# Altium schematic symbol library MCx.SchLib: 66 symbols (part 3 of 3)
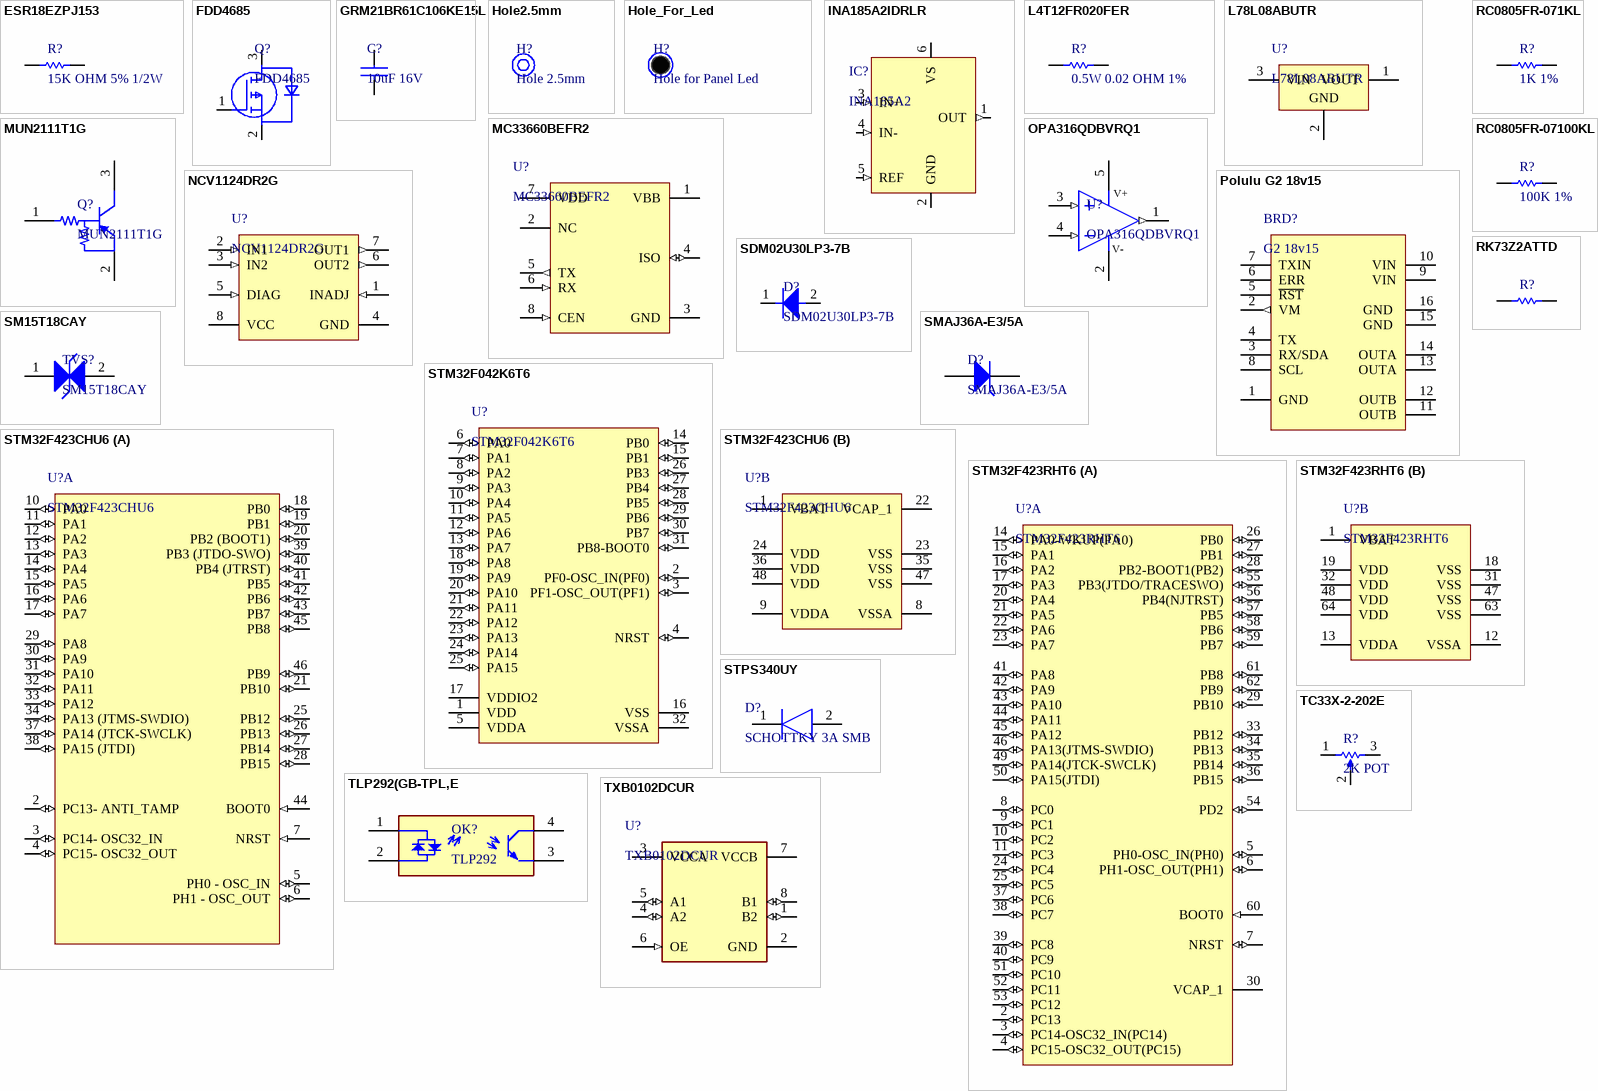
[diagram p3: symbols ESR18EZPJ153 to TXB0102DCUR]

## L78L08ABUTR
designator U?
STMICROELECTRONICS         L78L08ABUTR             Fixed Linear Voltage Regulator, 7808, 3-Terminal, Positive, 14V To 30V In, 8V And 0.1A Out, SOT-89-3; Dropout Voltage: 1.7V; Number of Outputs: 1; Output Current: 100mA; Min Input Voltage: 10V; Min Supply Voltage: 10.5V; Quiescent Current: 6mA; Power Supply Rejection Ratio (PSRR): 45dB; Supplier 1: Mouser; Supplier Part Number 1: 511-L78L08ABU; Manufacturer: STMicroelectronics; Manufacturer Part Number: L78L08ABUTR; RoHS: Yes; Category: Voltage Regulators - Linear; Stock 1: 5535; Pricing 1: 1=0.44000, 10=0.35400, 100=0.21200, 1000=0.15600, 2500=0.13600, 10000=0.12900 (USD); Mount: Surface Mount; Case/Package: SOT-89; Number of Pins: 3; Weight: 0.004603oz; Min Operating Temperature: -40°C; Max Operating Temperature: 125°C; Packaging: Tape and Reel; Output Voltage: 8V; Package Quantity: 1; Max Output Current: 100mA; Max Input Voltage: 30V; Max Supply Voltage: 30V; Nominal Output Voltage: 8V; Number of Regulators: 1; Polarity: Positive; Min Output Voltage: 8V; Max Output Voltage: 8V; Termination: SMD/SMT; Output Type: Fixed; Length: 4.6mm; Height: 1.6mm; Width: 2.6mm; Radiation Hardening: No; REACH SVHC: No SVHC; Lead Free: Lead Free; ComponentLink1URL: https://datasheet.ciiva.com/2042/cd00000446-2042016.pdf?src-supplier=Digi-Key; ComponentLink1Description: https://datasheet.ciiva.com/2042/cd00000446-2042016.pdf?src-supplier=Digi-Key; ComponentLink2URL: https://datasheet.ciiva.com/2042/cd00000446-2042017.pdf?src-supplier=Digi-Key; ComponentLink2Description: https://datasheet.ciiva.com/2042/cd00000446-2042017.pdf?src-supplier=Digi-Key; ComponentLink3URL: https://datasheet.ciiva.com/3224/cd00000446-3224981.pdf?src-supplier=Avnet; ComponentLink3Description: https://datasheet.ciiva.com/3224/cd00000446-3224981.pdf?src-supplier=Avnet; ComponentLink4URL: https://datasheet.ciiva.com/1511/1868798-1511944.pdf?src-supplier=Element14; ComponentLink4Description: https://datasheet.ciiva.com/1511/1868798-1511944.pdf?src-supplier=Element14; ComponentLink5URL: https://datasheet.ciiva.com/22710/1897877-22710941.pdf?src-supplier=Element14; ComponentLink5Description: https://datasheet.ciiva.com/22710/1897877-22710941.pdf?src-supplier=Element14; ComponentLink6URL: https://datasheet.ciiva.com/16393/cd00000446-16393710.pdf?src-supplier=Future+Electronics; ComponentLink6Description: https://datasheet.ciiva.com/16393/cd00000446-16393710.pdf?src-supplier=Future+Electronics; ComponentLink7URL: https://datasheet.ciiva.com/2042/cd00000446-2042015.pdf?src-supplier=Digi-Key; ComponentLink7Description: https://datasheet.ciiva.com/2042/cd00000446-2042015.pdf?src-supplier=Digi-Key; ComponentLink8URL: https://datasheet.ciiva.com/41439/001184636-da-01-en-ic-reg-ldo-8v-0-l78l08abutr-sot-89-3-stm-41439739.pdf?src-supplier=Conrad; ComponentLink8Description: https://datasheet.ciiva.com/41439/001184636-da-01-en-ic-reg-ldo-8v-0-l78l08abutr-sot-89-3-stm-41439739.pdf?src-supplier=Conrad
footprint SOT-89_L (SOT89, 3-Leads, Body 4.5x2.4 mm, Pitch 1.5mm, Lead Span 4.1mm, IPC High Density)
footprint SOT-89_M (SOT89, 3-Leads, Body 4.5x2.4 mm, Pitch 1.5mm, Lead Span 4.1mm, IPC Low Density)
footprint SOT-89_N (SOT89, 3-Leads, Body 4.5x2.4 mm, Pitch 1.5mm, Lead Span 4.1mm, IPC Medium Density)
pins: 1 VOUT (power), 2 GND (power), 3 VIN (power)

## MC33660BEFR2
designator U?
Transceiver, Physical layer, ISO9141 K Line Serial Link Interface, SOIC 8, Reel; Manufacturer: NXP Freescale; Supplier 1: Mouser; Supplier Part Number 1: 841-MC33660BEFR2; Manufacturer Part Number: MC33660BEFR2; RoHS: Yes; Category: Interface ICs; Stock 1: 3633; Pricing 1: 1=1.62000, 10=1.38000, 100=0.93600, 500=0.88700, 1000=0.69000, 2500=0.65500 (USD); Case/Package: SOIC; Number of Pins: 8; Min Operating Temperature: -40°C; Max Operating Temperature: 125°C; ComponentLink1URL: http://cache.freescale.com/files/analog/doc/data_sheet/MC33660.pdf?src-supplier=Avnet; ComponentLink1Description: http://cache.freescale.com/files/analog/doc/data_sheet/MC33660.pdf?src-supplier=Avnet; ComponentLink2URL: https://www.nxp.com/docs/en/data-sheet/MC33660.pdf?src-supplier=Digi-Key; ComponentLink2Description: https://www.nxp.com/docs/en/data-sheet/MC33660.pdf?src-supplier=Digi-Key
footprint SOIC127P600X175-8N (SOIC, 8-Leads, Body 4.90x3.90mm, Pitch 1.27mm, IPC Medium Density)
pins: 1 VBB (power), 2 NC, 3 GND (power), 4 ISO (io), 5 TX (out), 6 RX (in), 7 VDD (power), 8 CEN (in)

## MUN2111T1G
designator Q?
TRANS PREBIAS PNP 230MW SC59; Manufacturer: ON Semiconductor; Collector Emitter Voltage (VCEO): 50V; hFE Min: 35; Max Collector Current: 100mA; Element Configuration: Single; Voltage Rating (DC): -50V; Current Rating: -100mA; Collector Emitter Saturation Voltage: 250mV; Supplier 1: Mouser; Supplier Part Number 1: 863-MUN2111T1G; Manufacturer Part Number: MUN2111T1G; RoHS: Yes; Category: BJTs; Stock 1: 22623; Pricing 1: 1=0.14000, 10=0.12300, 100=0.04200, 1000=0.02900, 3000=0.02300, 9000=0.01900, 24000=0.01800, 45000=0.01500, 99000=0.01400 (USD); Case/Package: SC; Number of Pins: 3; Weight: 0.000282oz; Contact Plating: Tin,Matte; Min Operating Temperature: -55°C; Max Operating Temperature: 150°C; Packaging: Tape and Reel; Polarity: PNP; Package Quantity: 1; Max Power Dissipation: 230mW; Collector Emitter Breakdown Voltage: 50V; Continuous Collector Current: 100mA; Max Output Current: 100mA; Operating Supply Voltage: 50V; Max Breakdown Voltage: 50V; Length: 2.9mm; Height: 1.09mm; Width: 1.5mm; Radiation Hardening: No; Lead Free: Lead Free; Halogen Free: Halogen Free; REACH SVHC: No SVHC; ComponentLink1URL: https://datasheet.ciiva.com/989/dta114e-d-989072.pdf?src-supplier=Digi-Key; ComponentLink1Description: https://datasheet.ciiva.com/989/dta114e-d-989072.pdf?src-supplier=Digi-Key; ComponentLink2URL: https://datasheet.ciiva.com/15139/getdatasheetpartid-93629-15139627.pdf?src-supplier=Verical; ComponentLink2Description: https://datasheet.ciiva.com/15139/getdatasheetpartid-93629-15139627.pdf?src-supplier=Verical; ComponentLink3URL: https://datasheet.ciiva.com/989/dta114e-d-989073.pdf?src-supplier=Digi-Key; ComponentLink3Description: https://datasheet.ciiva.com/989/dta114e-d-989073.pdf?src-supplier=Digi-Key; ComponentLink4URL: https://datasheet.ciiva.com/989/dta114e-d-989074.pdf?src-supplier=Digi-Key; ComponentLink4Description: https://datasheet.ciiva.com/989/dta114e-d-989074.pdf?src-supplier=Digi-Key; ComponentLink5URL: https://datasheet.ciiva.com/16388/dta114e-d-16388471.pdf?src-supplier=Future+Electronics; ComponentLink5Description: https://datasheet.ciiva.com/16388/dta114e-d-16388471.pdf?src-supplier=Future+Electronics
footprint ONSC-SC-59-3-318D-04_V (SOT23, 3-Leads, Body 2.9x1.5mm, Pitch 0.95mm)
pins: 1 B, 2 E, 3 C

## NCV1124DR2G
designator U?
ON SEMICONDUCTOR - NCV1124DR2G - Variable Reluctance Sensor, 4.5 V-5.5 V supply, SOIC-8; Interface: Serial,Parallel; Min Supply Voltage: 4.5V; Max Supply Voltage: 5.5V; Operating Supply Voltage: 5V; Nominal Supply Current: 5mA; Output Current: 1.6mA; Output Voltage: 5.3V; Input Bias Current: 11uA; Supplier 1: Mouser; Supplier Part Number 1: 863-NCV1124DR2G; Manufacturer: ON Semiconductor; Manufacturer Part Number: NCV1124DR2G; RoHS: Yes; Category: Interface ICs; Stock 1: 2109; Pricing 1: 1=2.26000, 10=1.92000, 100=1.34000, 500=1.30000, 1000=1.06000, 2500=1.00000, 5000=0.96200, 25000=0.93300 (USD); Case/Package: SOIC; Number of Pins: 8; Contact Plating: Tin,Matte; Min Operating Temperature: -40°C; Max Operating Temperature: 125°C; Package Quantity: 1; Packaging: Tape and Reel; Operating Supply Current: 5mA; Radiation Hardening: No; REACH SVHC: No SVHC; Lead Free: Lead Free; Halogen Free: Halogen Free; ComponentLink1URL: https://datasheet.ciiva.com/4781/ncv112420data20sheet-113730-4781808.pdf?src-supplier=Mouser; ComponentLink1Description: https://datasheet.ciiva.com/4781/ncv112420data20sheet-113730-4781808.pdf?src-supplier=Mouser; ComponentLink2URL: https://datasheet.ciiva.com/15098/getdatasheetpartid-304827-15098896.pdf?src-supplier=Verical; ComponentLink2Description: https://datasheet.ciiva.com/15098/getdatasheetpartid-304827-15098896.pdf?src-supplier=Verical; ComponentLink3URL: https://datasheet.ciiva.com/3276/ncv112420data20sheet-3276691.pdf?src-supplier=Avnet; ComponentLink3Description: https://datasheet.ciiva.com/3276/ncv112420data20sheet-3276691.pdf?src-supplier=Avnet; ComponentLink4URL: https://datasheet.ciiva.com/6633/ncv1124-data-sheet-6633306.pdf?src-supplier=Digi-Key; ComponentLink4Description: https://datasheet.ciiva.com/6633/ncv1124-data-sheet-6633306.pdf?src-supplier=Digi-Key; ComponentLink5URL: https://datasheet.ciiva.com/6633/ncv1124-data-sheet-6633308.pdf?src-supplier=Digi-Key; ComponentLink5Description: https://datasheet.ciiva.com/6633/ncv1124-data-sheet-6633308.pdf?src-supplier=Digi-Key; ComponentLink6URL: https://datasheet.ciiva.com/16220/ncv1124datasheet-16220093.pdf?src-supplier=Future+Electronics; ComponentLink6Description: https://datasheet.ciiva.com/16220/ncv1124datasheet-16220093.pdf?src-supplier=Future+Electronics
footprint ONSC-SOIC-8NB-8-751-07_V (SOIC, 8-Leads, Body 5x4mm, Pitch 1.27mm)
pins: 1 INADJ (in) "External resistor to ground that sets the trip levels of both channels. Functions for both diagnostic and normal mode", 2 IN1 (in) "Input to channel 1", 3 IN2 (in) "Input to channel 2", 4 GND (power) "Ground", 5 DIAG (in) "Diagnostic mode switch. Normal mode is low", 6 OUT2 (out) "Output of channel 2", 7 OUT1 (out) "Output of channel 1", 8 VCC (power) "Positive 5.0 volt supply input"

## OPA316QDBVRQ1
designator U?
Op Amp Single Low Power Amplifier R-R I/O ±2.75V/5.5V Automotive 5-Pin SOT-23 T/R; Manufacturer: Texas Instruments; Number of Circuits: 1; Slew Rate: 6V/µs; Gain Bandwidth Product: 10MHz; Input Bias Current: 5pA; Input Offset Voltage (Vos): 500uV; Operating Supply Current: 400uA; Output Current per Channel: 50mA; Supplier 1: Mouser; Supplier Part Number 1: 595-OPA316QDBVRQ1; Manufacturer Part Number: OPA316QDBVRQ1; RoHS: No; Category: Amplifiers - Op Amps, Buffer, Instrumentation; Stock 1: 4457; Pricing 1: 1=1.37000, 10=1.16000, 100=0.89100, 250=0.78700, 500=0.74600, 1000=0.58000 (USD); Mount: Surface Mount; Case/Package: SOT-23-5; Min Operating Temperature: -40°C; Max Operating Temperature: 125°C; Packaging: Tape and Reel; Number of Channels: 1; ComponentLink1URL: http://www.ti.com/lit/ds/symlink/opa316-q1.pdf?src-supplier=Digi-Key; ComponentLink1Description: http://www.ti.com/lit/ds/symlink/opa316-q1.pdf?src-supplier=Digi-Key
footprint DBV0005A_M (SOT23, 5-Leads, Body 3.05x1.75mm, Pitch 0.95mm, IPC Low Density)
footprint DBV0005A_N (SOT23, 5-Leads, Body 3.05x1.75mm, Pitch 0.95mm, IPC Medium Density)
footprint DBV0005A_L (SOT23, 5-Leads, Body 3.05x1.75mm, Pitch 0.95mm, IPC High Density)
pins: 1 OUT (out), 2 V- (power), 3 IN+ (in), 4 IN- (in), 5 V+ (power)

## Polulu G2 18v15
designator BRD?, comment G2 18v15
Pololu Motor controller, 18V max, 15A max; ComponentLink1Description: website; ComponentLink1URL: https://www.pololu.com/product/1363
footprint Pololu-G2 18v15 (Pololu Motor Controller  G2 18V15)
pins: 1 GND , 2 VM (out), 3 RX/SDA, 4 TX, 5 ~{RST}, 6 ERR, 7 TXIN, 8 SCL, 9 VIN, 10 VIN, 11 OUTB, 12 OUTB, 13 OUTA, 14 OUTA, 15 GND , 16 GND 

## RC0805FR-071KL
designator R?, comment 1K 1%
RESISTOR, 0805 1K 1%, FULL REEL; Product Range:YAGEO - RC Series; Resistance:1kohm; Power Rating:125mW; Resistance Tolerance:± 1%; Resistor Case Style:0805 [2012 Metric]; Resistor Element Material:Thick Film; Temperature Coefficient:± 250ppm/°C; Voltage Rating:150V; Packaging:Tape & Reel; MSL:-; SVHC:No SVHC (16-Dec-2013); External Depth:0.55mm; External Length / Height:2mm; External Width:1.25mm; No. of Pins:2; Operating Temperature Max:155°C; Operating Temperature Min:-55°C; Operating Temperature Range:-55°C to +155°C; Reel Quantity:5000; Resistor Mounting:SMD; Series:RC12H; Temperature Coef; Manufacturer: Yageo; Manufacturer Part Number: RC0805FR-071KL; Resistance: 1kR; Temperature Coefficient: 100ppm/°C; Power Rating: 125mW; Voltage Rating: 150V; Supplier 1: Mouser; Supplier Part Number 1: 603-RC0805FR-071KL; RoHS: Yes; Category: Chip SMD Resistors; Stock 1: 1519412; Pricing 1: 1=0.13000, 10=0.03100, 100=0.01100, 1000=0.00800, 5000=0.00500, 10000=0.00500 (USD); Case/Package: 0805; Number of Pins: 2; Case Code (Metric): 2012; Case Code (Imperial): 0805; Min Operating Temperature: -55°C; Max Operating Temperature: 155°C; Packaging: Tape and Reel; Composition: Thick Film; Tolerance: 1%; Number of Terminations: 2; Voltage Rating (DC): 150V; Termination: SMD/SMT; Max Power Dissipation: 125mW; Package Quantity: 1; Features: Moisture Resistant; Military Standard: Not; Length: 0.079inch; Height: 0.024inch; Width: 0.049inch; Depth: 1.25mm; Lead Free: Lead Free; REACH SVHC: Unknown; ComponentLink1URL: https://datasheet.ciiva.com/2456/pyu-r-int-thick-7-2456976.pdf?src-supplier=Digi-Key; ComponentLink1Description: https://datasheet.ciiva.com/2456/pyu-r-int-thick-7-2456976.pdf?src-supplier=Digi-Key; ComponentLink2URL: https://datasheet.ciiva.com/2456/pyu-r-int-thick-7-2456977.pdf?src-supplier=Digi-Key; ComponentLink2Description: https://datasheet.ciiva.com/2456/pyu-r-int-thick-7-2456977.pdf?src-supplier=Digi-Key; ComponentLink3URL: https://datasheet.ciiva.com/7941/1686128-7941719.pdf?src-supplier=Element14; ComponentLink3Description: https://datasheet.ciiva.com/7941/1686128-7941719.pdf?src-supplier=Element14; ComponentLink4URL: https://datasheet.ciiva.com/16850/rc0805-16850409.pdf?src-supplier=Future+Electronics; ComponentLink4Description: https://datasheet.ciiva.com/16850/rc0805-16850409.pdf?src-supplier=Future+Electronics; ComponentLink5URL: https://datasheet.ciiva.com/46385/444164-46385020.pdf?src-supplier=Element14; ComponentLink5Description: https://datasheet.ciiva.com/46385/444164-46385020.pdf?src-supplier=Element14; ComponentLink6URL: https://datasheet.ciiva.com/2456/pyu-r-int-thick-7-2456975.pdf?src-supplier=Digi-Key; ComponentLink6Description: https://datasheet.ciiva.com/2456/pyu-r-int-thick-7-2456975.pdf?src-supplier=Digi-Key
footprint R0805
pins: 1, 2

## RC0805FR-07100KL
designator R?, comment 100K 1%
YAGEO         RC0805FR-07100KL            RES, THICK FILM, 100K, 1%, 0.125W, 0805, REEL; Resistance: 100kR; Temperature Coefficient: 100ppm/°C; Power Rating: 125mW; Voltage Rating: 150V; Supplier 1: Mouser; Supplier Part Number 1: 603-RC0805FR-07100KL; Manufacturer: Yageo; Manufacturer Part Number: RC0805FR-07100KL; RoHS: Yes; Category: Chip SMD Resistors; Stock 1: 1596989; Pricing 1: 1=0.13000, 10=0.03100, 100=0.01100, 1000=0.00800, 5000=0.00500, 10000=0.00500 (USD); Case/Package: 0805; Number of Pins: 2; Case Code (Metric): 2012; Case Code (Imperial): 0805; Min Operating Temperature: -55°C; Max Operating Temperature: 155°C; Tolerance: 1%; Packaging: Tape and Reel; Composition: Thick Film; Voltage Rating (DC): 150V; Package Quantity: 1; Number of Terminations: 2; Max Power Dissipation: 125mW; Termination: SMD/SMT; Military Standard: Not; Features: Moisture Resistant; Length: 2mm; Height: 0.024inch; Width: 0.049inch; Depth: 1.25mm; Lead Pitch: 0.4mm; Lead Free: Lead Free; REACH SVHC: Unknown; ComponentLink1URL: https://datasheet.ciiva.com/11808/0900766b8106beab-11808858.pdf?src-supplier=RSComponents; ComponentLink1Description: https://datasheet.ciiva.com/11808/0900766b8106beab-11808858.pdf?src-supplier=RSComponents; ComponentLink2URL: https://datasheet.ciiva.com/2457/pyu-r-int-thick-7-2457017.pdf?src-supplier=Digi-Key; ComponentLink2Description: https://datasheet.ciiva.com/2457/pyu-r-int-thick-7-2457017.pdf?src-supplier=Digi-Key; ComponentLink3URL: https://datasheet.ciiva.com/12667/rc0805-12667001.pdf?src-supplier=Mouser; ComponentLink3Description: https://datasheet.ciiva.com/12667/rc0805-12667001.pdf?src-supplier=Mouser; ComponentLink4URL: https://datasheet.ciiva.com/2457/pyu-r-int-thick-7-2457018.pdf?src-supplier=Digi-Key; ComponentLink4Description: https://datasheet.ciiva.com/2457/pyu-r-int-thick-7-2457018.pdf?src-supplier=Digi-Key; ComponentLink5URL: https://datasheet.ciiva.com/16747/rc0805-16747226.pdf?src-supplier=Future+Electronics; ComponentLink5Description: https://datasheet.ciiva.com/16747/rc0805-16747226.pdf?src-supplier=Future+Electronics; ComponentLink6URL: https://datasheet.ciiva.com/2457/pyu-r-int-thick-7-2457019.pdf?src-supplier=Digi-Key; ComponentLink6Description: https://datasheet.ciiva.com/2457/pyu-r-int-thick-7-2457019.pdf?src-supplier=Digi-Key; ComponentLink7URL: https://datasheet.ciiva.com/7660/38627-7660796.pdf?src-supplier=Element14; ComponentLink7Description: https://datasheet.ciiva.com/7660/38627-7660796.pdf?src-supplier=Element14; ComponentLink8URL: https://datasheet.ciiva.com/7941/1697719-7941676.pdf?src-supplier=Element14; ComponentLink8Description: https://datasheet.ciiva.com/7941/1697719-7941676.pdf?src-supplier=Element14; ComponentLink9URL: https://datasheet.ciiva.com/7941/1686128-7941677.pdf?src-supplier=Element14; ComponentLink9Description: https://datasheet.ciiva.com/7941/1686128-7941677.pdf?src-supplier=Element14; ComponentLink10URL: https://datasheet.ciiva.com/7941/1697719-7941678.pdf?src-supplier=Element14; ComponentLink10Description: https://datasheet.ciiva.com/7941/1697719-7941678.pdf?src-supplier=Element14; ComponentLink11URL: https://datasheet.ciiva.com/22747/444164-22747534.pdf?src-supplier=Element14; ComponentLink11Description: https://datasheet.ciiva.com/22747/444164-22747534.pdf?src-supplier=Element14
footprint R0805
pins: 1, 2

## RK73Z2ATTD
designator R?, comment 0 OHM  (value not drawn)
Res Thick Film 0805 0 Ohm Pad SMD Automotive T/R; Manufacturer: KOA Speer; Manufacturer Part Number: RK73Z2ATTD; Resistance: 0mR; Power Rating: 2W; Tolerance: 1%; Temperature Coefficient: 400ppm/°C; Supplier 1: Mouser; Supplier Part Number 1: 660-RK73Z2ATTD; RoHS: Yes; Category: Chip SMD Resistors; Stock 1: 381276; Pricing 1: 1=0.10000, 10=0.09500, 100=0.09500, 1000=0.09500, 5000=0.00500, 10000=0.00400 (USD); Case/Package: 0805; Case Code (Imperial): 0805; Case Code (Metric): 2012; Min Operating Temperature: -55°C; Max Operating Temperature: 155°C; Packaging: Tape and Reel; Composition: Thick Film; Termination: SMD/SMT; Package Quantity: 5000; Military Standard: Not; Length: 2mm; Height: 0.5mm; Width: 1.25mm; Depth: 1.25mm; Lead Free: Lead Free; REACH SVHC: Unknown; ComponentLink1URL: https://datasheet.ciiva.com/7816/549012-7816885.pdf?src-supplier=Element14; ComponentLink1Description: https://datasheet.ciiva.com/7816/549012-7816885.pdf?src-supplier=Element14; ComponentLink2URL: https://datasheet.ciiva.com/15159/getdatasheetpartid-91633-15159914.pdf?src-supplier=Verical; ComponentLink2Description: https://datasheet.ciiva.com/15159/getdatasheetpartid-91633-15159914.pdf?src-supplier=Verical; ComponentLink3URL: https://datasheet.ciiva.com/48463/rk73z-series-eng-jap-tds-48463436.pdf?src-supplier=Distrelec; ComponentLink3Description: https://datasheet.ciiva.com/48463/rk73z-series-eng-jap-tds-48463436.pdf?src-supplier=Distrelec
footprint R0805
pins: 1, 2

## SDM02U30LP3-7B
designator D?
DIODE SCHOTTKY 30V 100MA 2DFN; Manufacturer: Diodes; Element Configuration: Single; Peak Non-Repetitive Surge Current: 500mA; Power Dissipation: 250mW; Peak Reverse Current: 4uA; Supplier 1: Mouser; Supplier Part Number 1: 621-SDM02U30LP3-7B; Manufacturer Part Number: SDM02U30LP3-7B; RoHS: Yes; Category: Rectifier Diodes; Stock 1: 25071; Pricing 1: 1=0.41000, 10=0.27600, 100=0.14400, 500=0.12900, 1000=0.10000, 2500=0.08800, 10000=0.07700, 20000=0.07200, 50000=0.07100 (USD); Mount: Surface Mount; Case/Package: DFN; Number of Pins: 2; Min Operating Temperature: -65°C; Max Operating Temperature: 150°C; Max Reverse Voltage (DC): 30V; Packaging: Tape and Reel; Forward Current: 100mA; Average Rectified Current: 100mA; Max Repetitive Reverse Voltage (Vrrm): 30V; Length: 0.65mm; Height: 0.32mm; Width: 0.345mm; Radiation Hardening: No; Lead Free: Lead Free; REACH SVHC: No SVHC; ComponentLink1URL: https://datasheet.ciiva.com/6377/sdm02u30lp3-6377457.pdf?src-supplier=Digi-Key; ComponentLink1Description: https://datasheet.ciiva.com/6377/sdm02u30lp3-6377457.pdf?src-supplier=Digi-Key
footprint X3-DFN0603-2 (DFN, 2-Leads,MANUFACTURER DIODE INCORPORATED RECOMMENDED)
pins: 1 K, 2 A

## SM15T18CAY
designator TVS?
TVS DIODE 15.3VWM 32.5VC SMC; Manufacturer: STMicroelectronics; Clamping Voltage: 32.5V; Peak Pulse Power: 1.5kW; Operating Supply Voltage: 15.3V; Max Surge Current: 59.5A; Polarity: Bidirectional; Breakdown Voltage: 17.1V; Peak Pulse Current: 308A; Test Current: 1mA; Max Reverse Leakage Current: 1uA; Element Configuration: Single; Leakage Current: 200nA; Number of Bidirectional Channels: 1; Power Line Protection: No; Max Breakdown Voltage: 18.9V; Supplier 1: Mouser; Supplier Part Number 1: 511-SM15T18CAY; Manufacturer Part Number: SM15T18CAY; RoHS: Yes; Category: TVS Diodes; Stock 1: 2340; Pricing 1: 1=0.87000, 10=0.73600, 100=0.55700, 250=0.54100, 500=0.46800, 1000=0.38600 (USD); Mount: Surface Mount; Case/Package: SMC; Number of Pins: 2; Min Operating Temperature: -40°C; Max Operating Temperature: 150°C; Packaging: Tape and Reel; Package Quantity: 2500; Reverse Standoff Voltage: 15.3V; Min Breakdown Voltage: 17.1V; Direction: Bidirectional; Composition: Zener; Max Power Dissipation: 1.5kW; Termination: SMD/SMT; Working Voltage: 15.3V; Length: 7.15mm; Height: 2.45mm; Width: 6.25mm; Depth: 6.25mm; Radiation Hardening: No; REACH SVHC: No SVHC; ComponentLink1URL: https://datasheet.ciiva.com/339/cd00283429-339520.pdf?src-supplier=Digi-Key; ComponentLink1Description: https://datasheet.ciiva.com/339/cd00283429-339520.pdf?src-supplier=Digi-Key; ComponentLink2URL: https://datasheet.ciiva.com/339/cd00283429-339519.pdf?src-supplier=Digi-Key; ComponentLink2Description: https://datasheet.ciiva.com/339/cd00283429-339519.pdf?src-supplier=Digi-Key; ComponentLink3URL: https://datasheet.ciiva.com/339/cd00283429-339521.pdf?src-supplier=Digi-Key; ComponentLink3Description: https://datasheet.ciiva.com/339/cd00283429-339521.pdf?src-supplier=Digi-Key
footprint SODFL795X265-2N_NOPOL (SODFL, 2-Leads, Body 5.90x7.95mm, IPC Medium Density)
pins: 1, 2

## SMAJ36A-E3/5A
designator D?
Transient Voltage Suppressor, TVS, TRANSZORB SMAJ Series, Unidirectional, 36 V, SMD, 2, 40 V ;RoHS Compliant: Yes; Manufacturer: Vishay Semiconductors; Breakdown Voltage: 40V; Clamping Voltage: 58.1V; Peak Pulse Power: 400W; Reverse Standoff Voltage: 36V; Peak Pulse Current: 6.9A; Element Configuration: Single; Leakage Current: 1uA; Test Current: 1mA; Number of Channels: 1; Power Line Protection: No; Max Breakdown Voltage: 44.2V; Max Forward Surge Current (Ifsm): 40A; Supplier 1: Mouser; Supplier Part Number 1: 625-SMAJ36A-E3/5A; Manufacturer Part Number: SMAJ36A-E3/5A; RoHS: Yes; Category: TVS Diodes; Stock 1: 9463; Pricing 1: 1=0.41000, 10=0.25500, 100=0.12800, 1000=0.10000, 2500=0.08700, 7500=0.08700, 45000=0.08400, 97500=0.08300 (USD); Case/Package: SMA; Number of Pins: 2; Min Operating Temperature: -55°C; Max Operating Temperature: 150°C; Package Quantity: 7500; Packaging: Tape and Reel; Direction: Unidirectional; Min Breakdown Voltage: 40V; Polarity: Unidirectional; Max Surge Current: 6.9A; Operating Supply Voltage: 36V; Max Power Dissipation: 400W; Reverse Breakdown Voltage: 40V; Max Reverse Leakage Current: 1uA; Number of Elements: 1; Composition: Zener; Number of Unidirectional Channels: 1; Radiation Hardening: No; REACH SVHC: Unknown; ComponentLink1URL: https://datasheet.ciiva.com/7659/548547-7659946.pdf?src-supplier=Element14; ComponentLink1Description: https://datasheet.ciiva.com/7659/548547-7659946.pdf?src-supplier=Element14; ComponentLink2URL: https://datasheet.ciiva.com/22696/548547-22696362.pdf?src-supplier=Element14; ComponentLink2Description: https://datasheet.ciiva.com/22696/548547-22696362.pdf?src-supplier=Element14
footprint VISH-DO-214AC-2_N (DO-214AC, 2-Leads, Body 4.5x2.79mm, IPC Medium Density)
pins: 1 K, 2 A

## STM32F042K6T6
designator U?
MCU 32-Bit STM32 ARM Cortex M0 RISC 32KB Flash 2.5V/3.3V 32-Pin LQFP Tray; Manufacturer: STMicroelectronics; RAM Size: 6KB; Max Power Dissipation: 351mW; Interface: I2C,SPI,USB,CAN,HDMI,IrDA,UART,USART,LIN,I2S; Number of I/Os: 26; Number of Timers/Counters: 6; Frequency: 48MHz; Oscillator Type: Internal; Data Bus Width: 32b; Watchdog Timer: Yes; Number of ADC Channels: 13; Max Supply Voltage: 3.6V; Min Supply Voltage: 2V; Peripherals: POR,PWM,WDT,DMA; Supplier 1: Mouser; Supplier Part Number 1: 511-STM32F042K6T6; Manufacturer Part Number: STM32F042K6T6; RoHS: Yes; Category: Microcontrollers; Stock 1: 5038; Pricing 1: 1=2.69000, 10=2.28000, 100=1.98000, 250=1.88000, 500=1.68000, 1000=1.42000 (USD); Case/Package: LQFP; Number of Pins: 32; Weight: 0.027302oz; Min Operating Temperature: -40°C; Max Operating Temperature: 85°C; Package Quantity: 1500; Core Architecture: ARM; Packaging: Tray; Number of Programmable I/O: 26; Max Frequency: 48MHz; Memory Type: FLASH; Memory Size: 32KB; Radiation Hardening: No; Lead Free: Lead Free; ComponentLink1URL: https://datasheet.ciiva.com/48492/dm00105814-48492533.pdf?src-supplier=Avnet; ComponentLink1Description: https://datasheet.ciiva.com/48492/dm00105814-48492533.pdf?src-supplier=Avnet
footprint STM-LQFP32_M (QFP, 32-Leads, Body 7x7mm, Pitch 0.8mm, IPC Low Density)
footprint STM-LQFP32_L (QFP, 32-Leads, Body 7x7mm, Pitch 0.8mm, IPC High Density)
footprint STM-LQFP32_N (QFP, 32-Leads, Body 7x7mm, Pitch 0.8mm, IPC Medium Density)
pins: 1 VDD (power) "Digital power supply", 2 PF0-OSC_IN(PF0) (io) "PF0/CRS_SYNC,I2C1_SDA/OSC_IN", 3 PF1-OSC_OUT(PF1) (io) "PF1/I2C1_SCL/OSC_OUT", 4 NRST (io) "Device reset input/internal reset output(active low)", 5 VDDA (power) "Analog power supply", 6 PA0 (io) "PA0/USART2_CTS,TIM2_CH1_ETR,TSC_G1_IO1/RTC_TAMP2,WKUP1,ADC_IN0", 7 PA1 (io) "PA1/USART2_RTS,TIM2_CH2,TSC_G1_IO2,EVENTOUT/ADC_IN1", 8 PA2 (io) "PA2/USART2_TX,TIM2_CH3,TSC_G1_IO3/ADC_IN2,WKUP4", 9 PA3 (io) "PA3/USART2_RX,TIM2_CH4,TSC_G1_IO4/ADC_IN3", 10 PA4 (io) "PA4/SPI1_NSS,I2S1_WS,TIM14_CH1,TSC_G2_IO1,USART2_CK,USB_NOE/ADC_IN4", 11 PA5 (io) "PA5/SPI1_SCK,I2S1_CK,CEC,TIM2_CH1_ETR,TSC_G2_IO2/ADC_IN5", 12 PA6 (io) "PA6/SPI1_MISO,I2S1_MCK,TIM3_CH1,TIM1_BKIN,TIM16_CH1,TSC_G2_IO3,EVENTOUT/ADC_IN6", 13 PA7 (io) "PA7/SPI1_MOSI,I2S1_SD,TIM3_CH2,TIM14_CH1,TIM1_CH1N,TIM17_CH1,TSC_G2_IO4,EVENTOUT/ADC_IN7", 14 PB0 (io) "PB0/TIM3_CH3,TIM1_CH2N,TSC_G3_IO2,EVENTOUT/ADC_IN8", 15 PB1 (io) "PB1/TIM3_CH4,TIM14_CH1,TIM1_CH3N,TSC_G3_IO3/ADC_IN9", 16 VSS (power) "Ground", 17 VDDIO2 (power) "Digital power supply", 18 PA8 (io) "PA8/USART1_CK,TIM1_CH1,EVENTOUT,MCO,CRS_SYNC", 19 PA9 (io) "PA9/USART1_TX,TIM1_CH2,TSC_G4_IO1,I2C1_SCL", 20 PA10 (io) "PA10/USART1_RX,TIM1_CH3,TIM17_BKIN,TSC_G4_IO2,I2C1_SDA", 21 PA11 (io) "PA11/CAN_RX,USART1_CTS,TIM1_CH4,TSC_G4_IO3,EVENTOUT,I2C1_SCL/USB_DM", 22 PA12 (io) "PA12/CAN_TX,USART1_RTS,TIM1_ETR,TSC_G4_IO4,EVENTOUT,I2C1_SDA/USB_DP", 23 PA13 (io) "PA13/IR_OUT,SWDIO,USB_NOE", 24 PA14 (io) "PA14/USART2_TX,SWCLK", 25 PA15 (io) "PA15/SPI1_NSS,I2S1_WS,USART2_RX,TIM2_CH1_ETR,EVENTOUT,USB_NOE", 26 PB3 (io) "PB3/SPI1_SCK,I2S1_CK,TIM2_CH2,TSC_G5_IO1,EVENTOUT", 27 PB4 (io) "PB4/SPI1_MISO,I2S1_MCK,TIM17_BKIN,TIM3_CH1,TSC_G5_IO2,EVENTOUT", 28 PB5 (io) "PB5/SPI1_MOSI,I2S1_SD,I2C1_SMBA,TIM16_BKIN,TIM3_CH2/WKUP6", 29 PB6 (io) "PB6/I2C1_SCL,USART1_TX,TIM16_CH1N,TSC_G5_I03", 30 PB7 (io) "PB7/I2C1_SDA,USART1_RX,TIM17_CH1N,TSC_G5_IO4", 31 PB8-BOOT0 (io) "PB8-BOOT0/I2C1_SCL,CEC,TIM16_CH1,TSC_SYNC,CAN_RX", 32 VSSA (power) "Analog ground"

## STM32F423CHU6
designator U?
STM32F Series 1.5 MB Flash 320 KB RAM 100 MHz 32-Bit Microcontroller - UFQFN-48; Manufacturer: STMicroelectronics; Supplier 1: Mouser; Supplier Part Number 1: 511-STM32F423CHU6; Manufacturer Part Number: STM32F423CHU6; RoHS: No; Category: Microcontrollers; Stock 1: 1012; Pricing 1: 1=9.92000, 10=8.96000, 25=8.55000, 100=7.42000, 250=7.09000, 500=6.46000, 1000=5.63000, 2500=5.42000 (USD)
footprint STM-UFQFPN48_V (UFQFPN48 STM recommended)
footprint STM-UFQFPN48-N (QFN, 48-Leads, Body 7.00x7.00mm, Pitch 0.50mm, Thermal Pad 5.60x5.60mm, IPC Medium Density)
part A pins: 2 PC13- ANTI_TAMP (io), 3 PC14- OSC32_IN (io), 4 PC15- OSC32_OUT (io), 5 PH0 - OSC_IN (io), 6 PH1 - OSC_OUT (io), 7 NRST (in), 10 PA0 (io), 11 PA1 (io), 12 PA2 (io), 13 PA3 (io), 14 PA4 (io), 15 PA5 (io), 16 PA6 (io), 17 PA7 (io), 18 PB0 (io), 19 PB1 (io), 20 PB2 (BOOT1) (io), 21 PB10 (io), 25 PB12 (io), 26 PB13 (io), 27 PB14 (io), 28 PB15 (io), 29 PA8 (io), 30 PA9 (io), 31 PA10 (io), 32 PA11 (io), 33 PA12 (io), 34 PA13 (JTMS-SWDIO) (io), 37 PA14 (JTCK-SWCLK) (io), 38 PA15 (JTDI) (io), 39 PB3 (JTDO-SWO) (io), 40 PB4 (JTRST) (io), 41 PB5 (io), 42 PB6 (io), 43 PB7 (io), 44 BOOT0 (in), 45 PB8 (io), 46 PB9 (io)
part B pins: 1 VBAT (power), 8 VSSA (power), 9 VDDA (power), 22 VCAP_1 (power), 23 VSS (power), 24 VDD (power), 35 VSS (power), 36 VDD (power), 47 VSS (power), 48 VDD (power)

## STM32F423RHT6
designator U?
MCU 32-Bit STM32 ARM Cortex M4 RISC 1.5MB Flash 1.8V/2.5V/3.3V 64-Pin LQFP Tray; Manufacturer: STMicroelectronics; Supplier 1: Mouser; Supplier Part Number 1: 511-STM32F423RHT6; Manufacturer Part Number: STM32F423RHT6; RoHS: No; Category: Microcontrollers; Stock 1: 576; Pricing 1: 1=11.03000, 10=10.14000, 25=9.72000, 100=8.56000, 250=8.14000, 500=7.62000 (USD)
footprint STM-LQFP64_L (Thin QFP, 64-Leads, Body 10x10mm, Pitch 0.5mm, IPC High Density)
footprint STM-LQFP64_M (Thin QFP, 64-Leads, Body 10x10mm, Pitch 0.5mm, IPC Low Density)
footprint STM-LQFP64_N (Thin QFP, 64-Leads, Body 10x10mm, Pitch 0.5mm, IPC Medium Density)
footprint STM-LQFP64_V (Thin QFP, 64-Leads, Body 10x10mm, Pitch 0.5mm, ST Recommended)
part A pins: 2 PC13 (io) "PC13/EVENTOUT/RTC_OUT,RTC_TAMP1,RTC_TS", 3 PC14-OSC32_IN(PC14) (io) "PC14-OSC32_IN(PC14)/EVENTOUT/OSC32_IN", 4 PC15-OSC32_OUT(PC15) (io) "PC15-OSC32_OUT(PC15)/EVENTOUT/OSC32_OUT", 5 PH0-OSC_IN(PH0) (io) "PH0-OSC_IN(PH0)/EVENTOUT/OSC_IN", 6 PH1-OSC_OUT(PH1) (io) "PH1-OSC_OUT(PH1)/EVENTOUT/OSC_OUT", 7 NRST (io), 8 PC0 (io) "PC0/OTG_HS_ULPI_STP/EVENTOUT/ADC123_IN10", 9 PC1 (io) "PC1/ETH_MDC/EVENTOUT/ADC123_IN11", 10 PC2 (io) "PC2/SPI2_MISO/OTG_HS_ULPI_DIR/ETH_MII_TXD2/I2S2ext_SD/EVENTOUT/ADC123_IN12", 11 PC3 (io) "PC3/SPI2_MOSI/I2S2_SD/OTG_HS_ULPI_NXT/ETH_MII_TX_CLK/EVENTOUT/ADC123_IN13", 14 PA0-WKUP(PA0) (io) "PA0-WKUP(PA0)/USART2_CTS/UART4_TX/ETH_MII_CRS/TIM2_CH1_ETR/TIM5_CH1/TIM8_ETR/EVENTOUT/ADC123_IN0/WKUP", 15 PA1 (io) "PA1/USART2_RTS/UART4_RX/ETH_RMII_REF_CLK/ETH_MII_RX_CLK/TIM5_CH2/TIM2_CH2/EVENTOUT/ADC123_IN1", 16 PA2 (io) "PA2/USART2_TX/TIM5_CH3/TIM9_CH1/TIM2_CH3/ETH_MDIO/EVENTOUT/ADC123_IN2", 17 PA3 (io) "PA3/USART2_RX/TIM5_CH4/TIM9_CH2/TIM2_CH4/OTG_HS_ULPI_D0/ETH_MII_COL/EVENTOUT/ADC123_IN3", 20 PA4 (io) "PA4/SPI1_NSS/SPI3_NSS/USART2_CK/DCMI_HSYNC/OTG_HS_SOF/I2S3_WS/EVENTOUT/ADC12_IN4/DAC_OUT1", 21 PA5 (io) "PA5/SPI1_SCK/OTG_HS_ULPI_CK/TIM2_CH1_ETR/TIM8_CH1N/EVENTOUT/ADC12_IN5/DAC_OUT2", 22 PA6 (io) "PA6/SPI1_MISO/TIM8_BKIN/TIM13_CH1/DCMI_PIXCLK/TIM3_CH1/TIM1_BKIN/EVENTOUT/ADC12_IN6", 23 PA7 (io) "PA7/SPI1_MOSI/TIM8_CH1N/TIM14_CH1/TIM3_CH2/ETH_MII_RX_DV/TIM1_CH1N/ETH_RMII_CRS_DV/EVENTOUT/ADC12_IN7", 24 PC4 (io) "PC4/ETH_RMII_RX_D0/ETH_MII_RX_D0/EVENTOUT/ADC12_IN14", 25 PC5 (io) "PC5/ETH_RMII_RX_D1/ETH_MII_RX_D1/EVENTOUT/ADC12_IN15", 26 PB0 (io) "PB0/TIM3_CH3/TIM8_CH2N/OTG_HS_ULPI_D1/ETH_MII_RXD2/TIM1_CH2N/EVENTOUT/ADC12_IN8", 27 PB1 (io) "PB1/TIM3_CH4/TIM8_CH3N/OTG_HS_ULPI_D2/ETH_MII_RXD3/TIM1_CH3N/EVENTOUT/ADC12_IN9", 28 PB2-BOOT1(PB2) (io) "PB2-BOOT1(PB2)/EVENTOUT", 29 PB10 (io) "PB10/SPI2_SCK/I2S2_CK/I2C2_SCL/USART3_TX/OTG_HS_ULPI_D3/ETH_MII_RX_ER/TIM2_CH3/EVENTOUT", 30 VCAP_1 (power) "PB11/I2C2_SDA/USART3_RX/OTG_HS_ULPI_D4/ETH_RMII_TX_EN/ETH_MII_TX_EN/TIM2_CH4/EVENTOUT", 33 PB12 (io) "PB12/SPI2_NSS/I2S2_WS/I2C2_SMBA/USART3_CK/TIM1_BKIN/CAN2_RX/OTG_HS_ULPI_D5/ETH_RMII_TXD0/ETH_MII_TXD0/OTG_HS_ID/EVENTOUT", 34 PB13 (io) "PB13/SPI2_SCK/I2S2_CK/USART3_CTS/TIM1_CH1N/CAN2_TX/OTG_HS_ULPI_D6/ETH_RMII_TXD1/ETH_MII_TXD1/EVENTOUT/OTG_HS_VBUS", 35 PB14 (io) "PB14/SPI2_MISO/TIM1_CH2N/TIM12_CH1/OTG_HS_DM/USART3_RTS/TIM8_CH2N/I2S2ext_SD/EVENTOUT", 36 PB15 (io) "PB15/SPI2_MOSI/I2S2_SD/TIM1_CH3N/TIM8_CH3N/TIM12_CH2/OTG_HS_DP/EVENTOUT/RTC_REFIN", 37 PC6 (io) "PC6/I2S2_MCK/TIM8_CH1/SDIO_D6/USART6_TX/DCMI_D0/TIM3_CH1/EVENTOUT", 38 PC7 (io) "PC7/I2S3_MCK/TIM8_CH2/SDIO_D7/USART6_RX/DCMI_D1/TIM3_CH2/EVENTOUT", 39 PC8 (io) "PC8/TIM8_CH3/SDIO_D0/TIM3_CH3/USART6_CK/DCMI_D2/EVENTOUT", 40 PC9 (io) "PC9/I2S_CKIN/MCO2/TIM8_CH4/SDIO_D1/I2C3_SDA/DCMI_D3/TIM3_CH4/EVENTOUT", 41 PA8 (io) "PA8/MCO1/USART1_CK/TIM1_CH1/I2C3_SCL/OTG_FS_SOF/EVENTOUT", 42 PA9 (io) "PA9/USART1_TX/TIM1_CH2/I2C3_SMBA/DCMI_D0/EVENTOUT/OTG_FS_VBUS", 43 PA10 (io) "PA10/USART1_RX/TIM1_CH3/OTG_FS_ID/DCMI_D1/EVENTOUT", 44 PA11 (io) "PA11/USART1_CTS/CAN1_RX/TIM1_CH4/OTG_FS_DM/EVENTOUT", 45 PA12 (io) "PA12/USART1_RTS/CAN1_TX/TIM1_ETR/OTG_FS_DP/EVENTOUT", 46 PA13(JTMS-SWDIO) (io) "PA13(JTMS-SWDIO)/JTMS-SWDIO/EVENTOUT", 49 PA14(JTCK-SWCLK) (io) "PA14(JTCK-SWCLK)/JTCK-SWCLK/EVENTOUT", 50 PA15(JTDI) (io) "PA15(JTDI)/JTDI/SPI3_NSS/I2S3_WS/TIM2_CH1_ETR/SPI1_NSS/EVENTOUT", 51 PC10 (io) "PC10/SPI3_SCK/I2S3_CK/UART4_TX/SDIO_D2/DCMI_D8/USART3_TX/EVENTOUT", 52 PC11 (io) "PC11/UART4_RX/SPI3_MISO/SDIO_D3/DCMI_D4/USART3_RX/I2S3ext_SD/EVENTOUT", 53 PC12 (io) "PC12/UART5_TX/SDIO_CK/DCMI_D9/SPI3_MOSI/I2S3_SD/USART3_CK/EVENTOUT", 54 PD2 (io) "PD2/TIM3_ETR/UART5_RX/SDIO_CMD/DCMI_D11/EVENTOUT", 55 PB3(JTDO/TRACESWO) (io) "PB3(JTDO/TRACESWO)/JTDO/TRACESWO/SPI3_SCK/I2S3_CK/TIM2_CH2/SPI1_SCK/EVENTOUT", 56 PB4(NJTRST) (io) "PB4(NJTRST)/NJTRST/SPI3_MISO/TIM3_CH1/SPI1_MISO/I2S3ext_SD/EVENTOUT", 57 PB5 (io) "PB5/I2C1_SMBA/CAN2_RX/OTG_HS_ULPI_D7/ETH_PPS_OUT/TIM3_CH2/SPI1_MOSI/SPI3_MOSI/DCMI_D10/I2S3_SD/EVENTOUT", 58 PB6 (io) "PB6/I2C1_SCL/TIM4_CH1/CAN2_TX/DCMI_D5/USART1_TX/EVENTOUT", 59 PB7 (io) "PB7/I2C1_SDA/FSMC_NL/DCMI_VSYNC/USART1_RX/TIM4_CH2/EVENTOUT", 60 BOOT0 (in) "BOOT0/VPP", 61 PB8 (io) "PB8/TIM4_CH3/SDIO_D4/TIM10_CH1/DCMI_D6/ETH_MII_TXD3/I2C1_SCL/CAN1_RX/EVENTOUT", 62 PB9 (io) "PB9/SPI2_NSS/I2S2_WS/TIM4_CH4/TIM11_CH1/SDIO_D5/DCMI_D7/I2C1_SDA/CAN1_TX/EVENTOUT"
part B pins: 1 VBAT (power), 12 VSSA (power), 13 VDDA (power), 18 VSS (power), 19 VDD (power), 31 VSS (power) "VCAP_1", 32 VDD (power), 47 VSS (power) "VCAP_2", 48 VDD (power), 63 VSS (power), 64 VDD (power)

## STPS340UY
designator D?, comment SCHOTTKY 3A SMB
DIODE SCHOTTKY 40V 3A SMB; Manufacturer_Name: STMicroelectronics; Manufacturer_Part_Number: STPS340UY; Peak Reverse Current: 20uA; Peak Non-Repetitive Surge Current: 75A; Element Configuration: Single; Forward Voltage: 840mV; Max Reverse Leakage Current: 10mA; Datasheet Link: https://ms.componentsearchengine.com/Datasheets/2/STPS340UY.pdf; Height: 2.65mm; Supplier 1: Mouser; Supplier Part Number 1: 511-STPS340UY; Manufacturer: STMicroelectronics; Manufacturer Part Number: STPS340UY; RoHS: Yes; Category: Rectifier Diodes; Stock 1: 8864; Pricing 1: 1=0.76000, 10=0.62700, 100=0.40400, 1000=0.32400, 2500=0.27300, 10000=0.26300, 25000=0.25300, 50000=0.24900, 100000=0.24300 (USD); Mount: Surface Mount; Case/Package: SMB; Number of Pins: 2; Min Operating Temperature: -40°C; Max Operating Temperature: 150°C; Forward Current: 3A; Max Repetitive Reverse Voltage (Vrrm): 40V; Max Surge Current: 75A; Packaging: Tape and Reel; Package Quantity: 1; Average Rectified Current: 3A; Max Reverse Voltage (DC): 40V; Radiation Hardening: No; Lead Free: Lead Free; ComponentLink1URL: https://datasheet.ciiva.com/25949/cd00270569-25949389.pdf?src-supplier=Avnet+Europe; ComponentLink1Description: https://datasheet.ciiva.com/25949/cd00270569-25949389.pdf?src-supplier=Avnet+Europe; ComponentLink2URL: https://datasheet.ciiva.com/13083/cd00270569-13083318.pdf?src-supplier=Mouser; ComponentLink2Description: https://datasheet.ciiva.com/13083/cd00270569-13083318.pdf?src-supplier=Mouser; ComponentLink3URL: https://datasheet.ciiva.com/6381/cd00270569-6381594.pdf?src-supplier=Digi-Key; ComponentLink3Description: https://datasheet.ciiva.com/6381/cd00270569-6381594.pdf?src-supplier=Digi-Key; ComponentLink4URL: https://datasheet.ciiva.com/6381/cd00270569-6381595.pdf?src-supplier=Digi-Key; ComponentLink4Description: https://datasheet.ciiva.com/6381/cd00270569-6381595.pdf?src-supplier=Digi-Key; ComponentLink5URL: https://datasheet.ciiva.com/6381/cd00270569-6381596.pdf?src-supplier=Digi-Key; ComponentLink5Description: https://datasheet.ciiva.com/6381/cd00270569-6381596.pdf?src-supplier=Digi-Key
footprint DIOM5436X265N
pins: 1 K, 2 A

## TC33X-2-202E
designator R?, comment 2K POT
GLOVE, POLYAMIDE, L/FREE, PU, SIZE 6 - More Details; Manufacturer: Bourns; Manufacturer Part Number: TC33X-2-202E; Tolerance: 25%; Resistance: 2kR; Voltage Rating (DC): 50V; Temperature Coefficient: 250ppm/°C; Number of Turns: 1; Max Power Dissipation: 100mW; Supplier 1: Mouser; Supplier Part Number 1: 652-TC33X-2-202E; RoHS: Yes; Category: Variable Resistors and Potentiometers; Stock 1: 7933; Pricing 1: 1=0.29000, 10=0.28600, 100=0.24000, 500=0.20500, 1000=0.18600, 2500=0.15500 (USD); Mount: Surface Mount; Weight: 29.4mg; Color: Silver; Min Operating Temperature: -40°C; Max Operating Temperature: 100°C; Composition: Carbon,Potentiometer,Cermet; Termination: Foot Print; Military Standard: Not; Packaging: Tape and Reel; Power Rating: 100mW; Package Quantity: 2500; Length: 3mm; Height: 0.047inch; Depth: 3.8mm; Width: 0.118inch; Radiation Hardening: No; Lead Free: Lead Free; REACH SVHC: No SVHC; ComponentLink1URL: https://datasheet.ciiva.com/11833/0900766b802749b3-11833210.pdf?src-supplier=RSComponents; ComponentLink1Description: https://datasheet.ciiva.com/11833/0900766b802749b3-11833210.pdf?src-supplier=RSComponents; ComponentLink2URL: https://datasheet.ciiva.com/2155/tc33-2155974.pdf?src-supplier=Digi-Key; ComponentLink2Description: https://datasheet.ciiva.com/2155/tc33-2155974.pdf?src-supplier=Digi-Key; ComponentLink3URL: https://datasheet.ciiva.com/2155/tc33-2155975.pdf?src-supplier=Digi-Key; ComponentLink3Description: https://datasheet.ciiva.com/2155/tc33-2155975.pdf?src-supplier=Digi-Key; ComponentLink4URL: https://datasheet.ciiva.com/22708/1818686-22708487.pdf?src-supplier=Element14; ComponentLink4Description: https://datasheet.ciiva.com/22708/1818686-22708487.pdf?src-supplier=Element14; ComponentLink5URL: https://datasheet.ciiva.com/2155/tc33-2155976.pdf?src-supplier=Digi-Key; ComponentLink5Description: https://datasheet.ciiva.com/2155/tc33-2155976.pdf?src-supplier=Digi-Key; ComponentLink6URL: https://datasheet.ciiva.com/17563/tc33-17563422.pdf?src-supplier=Avnet+Europe; ComponentLink6Description: https://datasheet.ciiva.com/17563/tc33-17563422.pdf?src-supplier=Avnet+Europe; ComponentLink7URL: https://datasheet.ciiva.com/7953/1818686-7953183.pdf?src-supplier=Element14; ComponentLink7Description: https://datasheet.ciiva.com/7953/1818686-7953183.pdf?src-supplier=Element14
footprint TC33X
pins: 1, 2 (power), 3 (power)

## TLP292(GB-TPL,E
designator OK?, comment TLP292
OPTOISOLATOR 3.75KV TRANS 4-SO; Manufacturer: Toshiba; Manufacturer Part Number: TLP292(GB-TPL,E; Collector Emitter Voltage (VCEO): 300mV; Number of Channels: 1; Forward Voltage: 1.25V; Max Output Voltage: 80V; Output Current per Channel: 50mA; Max Power Dissipation: 200mW; Supplier 1: Mouser; RoHS: Yes; Category: Optocouplers; Stock 1: 22194; Pricing 1: 1=0.60000, 10=0.35200, 100=0.23800, 500=0.20300, 1000=0.15900, 2500=0.13200, 10000=0.12400, 25000=0.11900, 50000=0.11500 (USD); Mount: Surface Mount; Case/Package: SO; Number of Pins: 4; Min Operating Temperature: -55°C; Max Operating Temperature: 125°C; Packaging: Tape and Reel; Max Input Current: 50mA; Max Collector Current: 50mA; Collector Emitter Saturation Voltage: 300mV; Package Quantity: 1; Radiation Hardening: No; ComponentLink1URL: https://datasheet.ciiva.com/29870/tlp292-datasheet-en-20130912-29870232.pdf?src-supplier=Digi-Key; ComponentLink1Description: https://datasheet.ciiva.com/29870/tlp292-datasheet-en-20130912-29870232.pdf?src-supplier=Digi-Key; ComponentLink2URL: https://datasheet.ciiva.com/29870/tlp292-datasheet-en-20130912-29870233.pdf?src-supplier=Digi-Key; ComponentLink2Description: https://datasheet.ciiva.com/29870/tlp292-datasheet-en-20130912-29870233.pdf?src-supplier=Digi-Key; ComponentLink3URL: https://datasheet.ciiva.com/29870/tlp292-datasheet-en-20130912-29870234.pdf?src-supplier=Digi-Key; ComponentLink3Description: https://datasheet.ciiva.com/29870/tlp292-datasheet-en-20130912-29870234.pdf?src-supplier=Digi-Key; ComponentLink4URL: https://datasheet.ciiva.com/30032/tlp292-datasheet-en-20130912-30032700.pdf?src-supplier=Avnet; ComponentLink4Description: https://datasheet.ciiva.com/30032/tlp292-datasheet-en-20130912-30032700.pdf?src-supplier=Avnet; Supplier Part Number 1: 757-TLP292GB-TPLE
footprint SOIC127P700X220-4N
pins: 1 C,A, 2 A,C, 3 EMITTER, 4 COLLECTOR

## TXB0102DCUR
designator U?
BI-DIRECTIONAL VOLTAGE LEVEL XLATOR, VSSOP-8, FULL REEL; Logic Device Type:Voltage Level Translator; Supply Voltage Min:1.2V; Supply Voltage Max:5.5V; Logic Case Style:VSSOP; No. of Pins:8; Operating Temperature Min:-40 C ;RoHS Compliant: Yes; Manufacturer: Texas Instruments; Max Supply Voltage: 5.5V; Min Supply Voltage: 1.2V; Propagation Delay: 31ns; Number of Channels: 2; Turn-On Delay Time: 7.4ns; High Level Output Current: -20uA; Low Level Output Current: 20uA; Data Rate: 100Mbps; Supplier 1: Mouser; Supplier Part Number 1: 595-TXB0102DCUR; Manufacturer Part Number: TXB0102DCUR; RoHS: Yes; Category: Logic Gates; Stock 1: 8569; Pricing 1: 1=0.72000, 10=0.59000, 100=0.44700, 250=0.38000, 500=0.36100, 1000=0.27600, 3000=0.25700, 6000=0.24700, 9000=0.23800 (USD); Mount: Surface Mount; Case/Package: VSSOP; Number of Pins: 8; Weight: 0.000339oz; Contact Plating: Gold; Min Operating Temperature: -40°C; Max Operating Temperature: 85°C; Packaging: Tape and Reel; Package Quantity: 1; Logic Function: Translator; Number of Bits: 2; Radiation Hardening: No; Lead Free: Lead Free; REACH SVHC: No SVHC; ComponentLink1URL: https://datasheet.ciiva.com/22677/1699360-22677930.pdf?src-supplier=Element14; ComponentLink1Description: https://datasheet.ciiva.com/22677/1699360-22677930.pdf?src-supplier=Element14; ComponentLink2URL: https://datasheet.ciiva.com/4226/sces641b-4226960.pdf?src-supplier=Arrow; ComponentLink2Description: https://datasheet.ciiva.com/4226/sces641b-4226960.pdf?src-supplier=Arrow; ComponentLink3URL: https://datasheet.ciiva.com/7744/1634161-7744195.pdf?src-supplier=Element14; ComponentLink3Description: https://datasheet.ciiva.com/7744/1634161-7744195.pdf?src-supplier=Element14; ComponentLink4URL: https://datasheet.ciiva.com/15096/getdatasheetpartid-214907-15096235.pdf?src-supplier=Verical; ComponentLink4Description: https://datasheet.ciiva.com/15096/getdatasheetpartid-214907-15096235.pdf?src-supplier=Verical; ComponentLink5URL: https://datasheet.ciiva.com/1899/txb0102-1899429.pdf?src-supplier=Digi-Key; ComponentLink5Description: https://datasheet.ciiva.com/1899/txb0102-1899429.pdf?src-supplier=Digi-Key; ComponentLink6URL: https://datasheet.ciiva.com/1899/txb0102-1899430.pdf?src-supplier=Digi-Key; ComponentLink6Description: https://datasheet.ciiva.com/1899/txb0102-1899430.pdf?src-supplier=Digi-Key; ComponentLink7URL: https://datasheet.ciiva.com/46384/1874809-46384198.pdf?src-supplier=Element14; ComponentLink7Description: https://datasheet.ciiva.com/46384/1874809-46384198.pdf?src-supplier=Element14; ComponentLink8URL: https://datasheet.ciiva.com/1899/txb0102-1899431.pdf?src-supplier=Digi-Key; ComponentLink8Description: https://datasheet.ciiva.com/1899/txb0102-1899431.pdf?src-supplier=Digi-Key; ComponentLink9URL: https://datasheet.ciiva.com/14287/txb0102-14287496.pdf?src-supplier=Avnet; ComponentLink9Description: https://datasheet.ciiva.com/14287/txb0102-14287496.pdf?src-supplier=Avnet; ComponentLink10URL: https://datasheet.ciiva.com/26039/txb0102-26039290.pdf?src-supplier=Avnet+Europe; ComponentLink10Description: https://datasheet.ciiva.com/26039/txb0102-26039290.pdf?src-supplier=Avnet+Europe; ComponentLink11URL: https://datasheet.ciiva.com/6132/txb0102-6132717.pdf?src-supplier=Farnell; ComponentLink11Description: https://datasheet.ciiva.com/6132/txb0102-6132717.pdf?src-supplier=Farnell
footprint FP-DCU0008A-MFG
pins: 1 B2 (io), 2 GND (power), 3 VCCA (power), 4 A2 (io), 5 A1 (io), 6 OE (in), 7 VCCB (power), 8 B1 (io)